# EAGLE library part AP3032 (library JKW_CHIP)
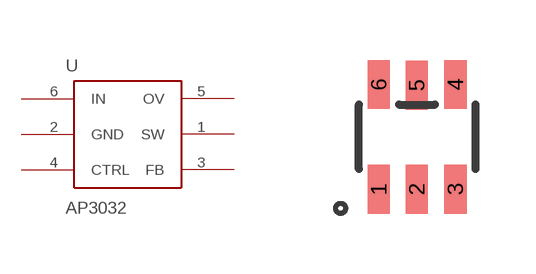
[diagram p12: symbol with the pads of SOT23-6; footprint SOT23-6]

Designator prefix -

## AP3032  [SOT23-6]
1  SW  pwr
2  GND  pwr
3  FB  pas
4  CTRL  in
5  OV  pwr
6  IN  pwr

## Footprint SOT23-6 (pad centres in mm)
smd 0.559 x 1.219: 1 -0.95,-1.3; 2 0,-1.3; 3 0.965,-1.3; 4 0.965,1.321; 5 0,1.3; 6 -0.95,1.321